# Altium schematic symbol library Microchip PIC12.SchLib: 457 symbols (part 3 of 15)
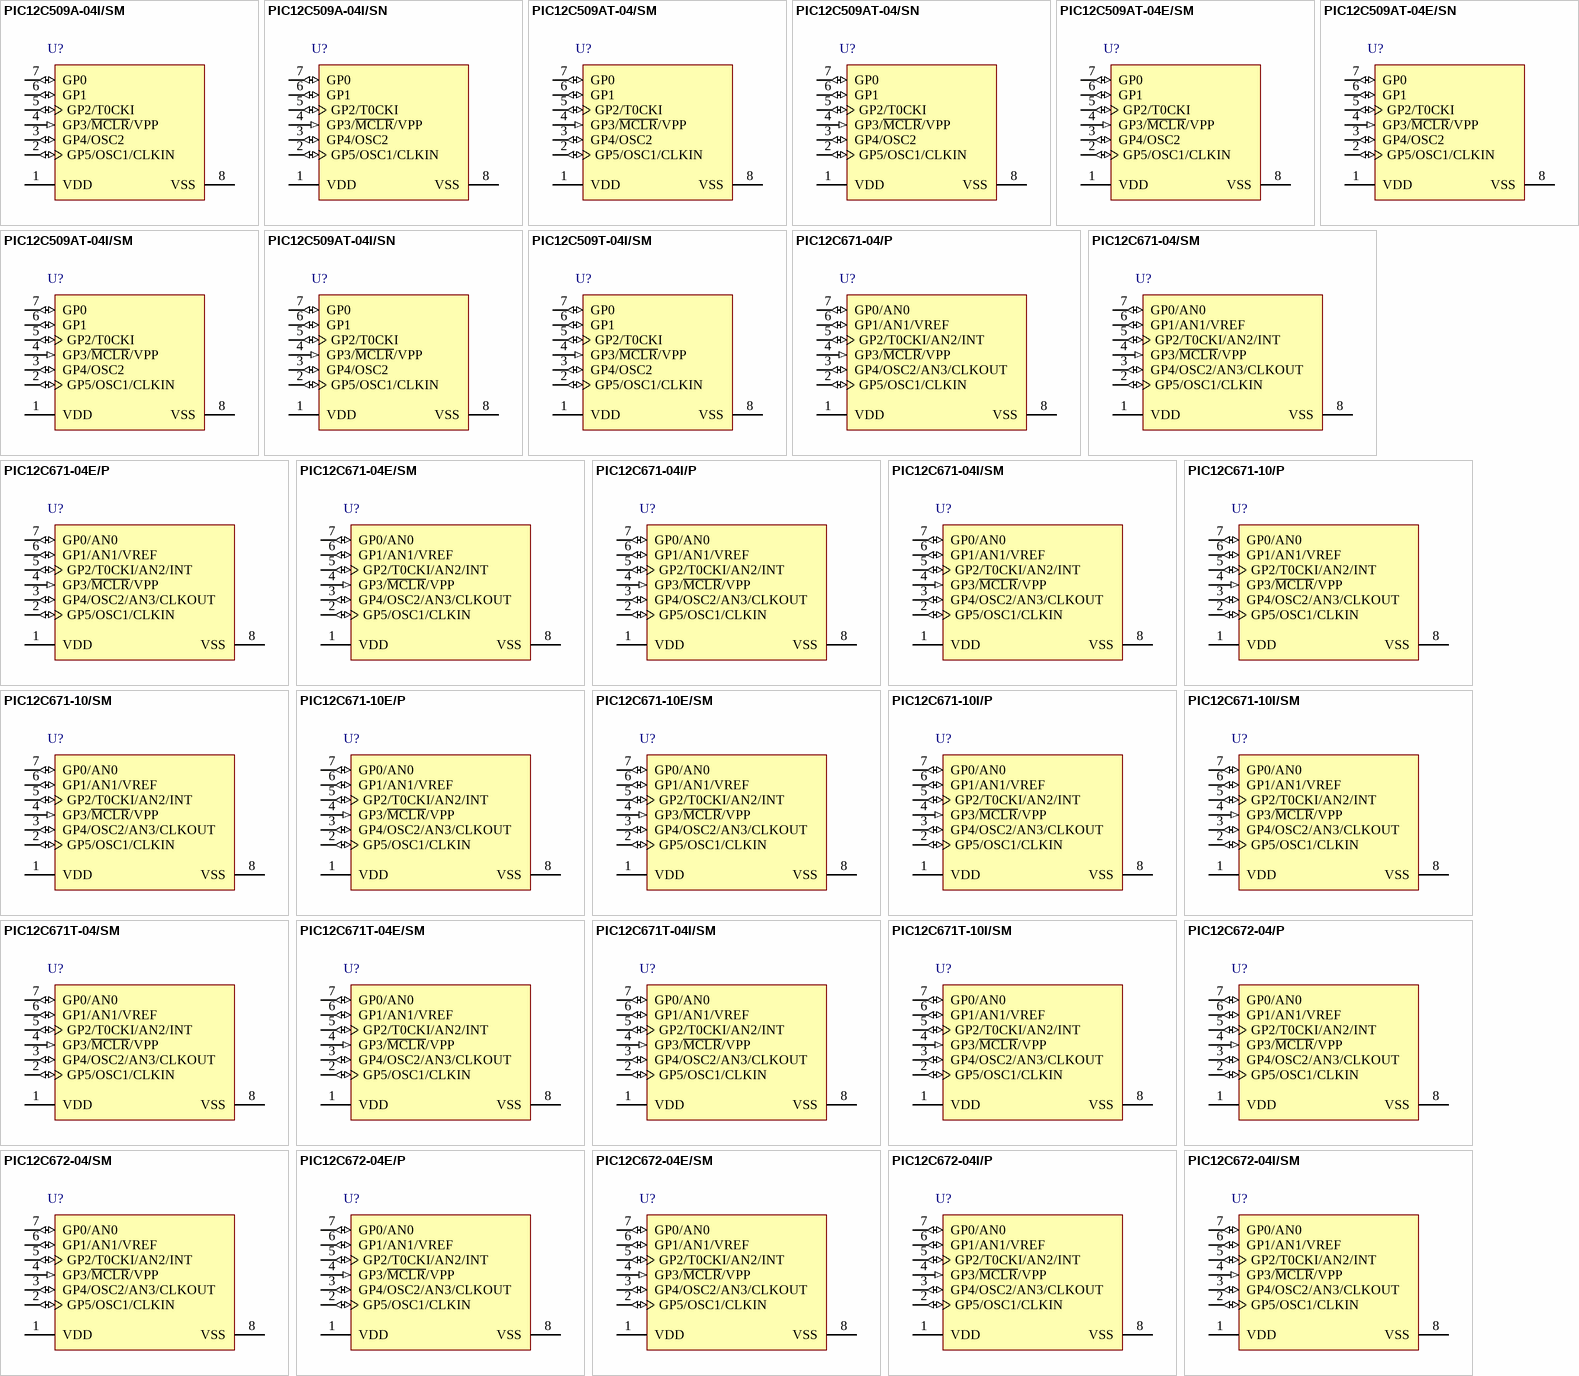
[diagram p17: symbols PIC12C509A-04I/SM to PIC12C672-04I/SM]

## PIC12C671-04/SM
designator U?
8-Bit CMOS Microcontroller with A/D Converter and EEPROM Data Memory, 4 MHz, 5 I/O, 0 to 70 degC, 8-pin SOIC (SM8), Tube; Manufacturer: Microchip; PartNumber: PIC12C671-04/SM; # of A/D Channels: 4; Digital Communication: 0 -UART, 0 -A/E/USART, 0 -SPI, 0 -I2C; I/O Pins: 5; Internal Oscillator: 4 MHz; Memory Type: OTP; Operation Voltage Range: 3V - 5.5V; Program Memory KBytes: 1.75; Program Memory KWords: 1; RAM: 128; Timers: 1 - 8-bit; DatasheetVersion: Rev. C; PackageVersion: C04-056C, 12/2012; PackageReference: SOIC-SM8; PackageDescription: 8-Lead Plastic Small Outline, 5.26 x 5.25 mm Body, 1.27 mm Pitch; Supplier 1: Digi-Key; Supplier Part Number 1: PIC12C671-04/SM-ND; Supplier 2: Farnell; Supplier Part Number 2: 1137292; Supplier 3: Newark; Supplier Part Number 3: 24M5843; Supplier 4: Newark; Supplier Part Number 4: 12C1855; Supplier 5: Mouser; Supplier Part Number 5: 579-PIC12C67104SM; Max. CPU Speed MHz: 4; Packing: TUBE; RoHS: TRUE; Mounting Technology: Surface Mount; ComponentLink1Description: Datasheet; ComponentLink1URL: http://ww1.microchip.com/downloads/en/DeviceDoc/30561C.pdf; ComponentLink2Description: Package Specification; ComponentLink2URL: http://www.microchip.com/stellent/groups/techpub_sg/documents/packagingspec/en012702.pdf; ComponentLink3Description: URL Link1; ComponentLink3URL: Product URL:http://www.microchip.com/datasheet/PIC12C671
footprint MCHP-SOIC-SM8_N (SOIC, 8-Leads, Body 5.26x5.25mm, Pitch 1.27mm, IPC Medium Density)
footprint MCHP-SOIC-SM8_L (SOIC, 8-Leads, Body 5.26x5.25mm, Pitch 1.27mm, IPC High Density)
footprint MCHP-SOIC-SM8_M (SOIC, 8-Leads, Body 5.26x5.25mm, Pitch 1.27mm, IPC Low Density)
pins: 1 VDD (power) "Positive supply for logic and I/O pins.", 2 GP5/OSC1/CLKIN (io), 3 GP4/OSC2/AN3/CLKOUT (io), 4 GP3/~{MCLR}/VPP (in), 5 GP2/T0CKI/AN2/INT (io), 6 GP1/AN1/VREF (io), 7 GP0/AN0 (io), 8 VSS (power) "Ground reference for logic and I/O pins."

## PIC12C671-04E/P
designator U?
8-Bit CMOS Microcontroller with A/D Converter and EEPROM Data Memory, 4 MHz, 5 I/O, -40 to 125 degC, 8-pin PDIP (P8), Tube; Manufacturer: Microchip; PartNumber: PIC12C671-04E/P; # of A/D Channels: 4; Digital Communication: 0 -UART, 0 -A/E/USART, 0 -SPI, 0 -I2C; I/O Pins: 5; Internal Oscillator: 4 MHz; Memory Type: OTP; Operation Voltage Range: 3V - 5.5V; Program Memory KBytes: 1.75; Program Memory KWords: 1; RAM: 128; Timers: 1 - 8-bit; DatasheetVersion: Rev. C; PackageVersion: C04-018B, 12/2012; PackageReference: PDIP-P8; PackageDescription: 8-Lead Plastic Dual In-Line, Row Spacing 7.62 mm, 9.5 x 6.6 mm Body, 2.54 mm Pitch; Supplier 1: Digi-Key; Supplier Part Number 1: PIC12C671-04E/P-ND; Supplier 2: Mouser; Supplier Part Number 2: 579-PIC12C671-04E/P; Max. CPU Speed MHz: 4; Packing: TUBE; RoHS: TRUE; Mounting Technology: Through Hole; ComponentLink1Description: Datasheet; ComponentLink1URL: http://ww1.microchip.com/downloads/en/DeviceDoc/30561C.pdf; ComponentLink2Description: Package Specification; ComponentLink2URL: http://www.microchip.com/stellent/groups/techpub_sg/documents/packagingspec/en012702.pdf; ComponentLink3Description: URL Link1; ComponentLink3URL: Product URL:http://www.microchip.com/datasheet/PIC12C671
footprint MCHP-PDIP-P8 (PDIP, 8-Leads, Body 9.5x6.604mm, Pitch 2.54mm)
pins: 1 VDD (power) "Positive supply for logic and I/O pins.", 2 GP5/OSC1/CLKIN (io), 3 GP4/OSC2/AN3/CLKOUT (io), 4 GP3/~{MCLR}/VPP (in), 5 GP2/T0CKI/AN2/INT (io), 6 GP1/AN1/VREF (io), 7 GP0/AN0 (io), 8 VSS (power) "Ground reference for logic and I/O pins."

## PIC12C671-04E/SM
designator U?
8-Bit CMOS Microcontroller with A/D Converter and EEPROM Data Memory, 4 MHz, 5 I/O, -40 to 125 degC, 8-pin SOIC (SM8), Tube; Manufacturer: Microchip; PartNumber: PIC12C671-04E/SM; # of A/D Channels: 4; Digital Communication: 0 -UART, 0 -A/E/USART, 0 -SPI, 0 -I2C; I/O Pins: 5; Internal Oscillator: 4 MHz; Memory Type: OTP; Operation Voltage Range: 3V - 5.5V; Program Memory KBytes: 1.75; Program Memory KWords: 1; RAM: 128; Timers: 1 - 8-bit; DatasheetVersion: Rev. C; PackageVersion: C04-056C, 12/2012; PackageReference: SOIC-SM8; PackageDescription: 8-Lead Plastic Small Outline, 5.26 x 5.25 mm Body, 1.27 mm Pitch; Supplier 1: Digi-Key; Supplier Part Number 1: PIC12C671-04E/SM-ND; Supplier 2: Newark; Supplier Part Number 2: 23C2971; Supplier 3: Mouser; Supplier Part Number 3: 579-PIC12C671-04E/SM; Max. CPU Speed MHz: 4; Packing: TUBE; RoHS: TRUE; Mounting Technology: Surface Mount; ComponentLink1Description: Datasheet; ComponentLink1URL: http://ww1.microchip.com/downloads/en/DeviceDoc/30561C.pdf; ComponentLink2Description: Package Specification; ComponentLink2URL: http://www.microchip.com/stellent/groups/techpub_sg/documents/packagingspec/en012702.pdf; ComponentLink3Description: URL Link1; ComponentLink3URL: Product URL:http://www.microchip.com/datasheet/PIC12C671
footprint MCHP-SOIC-SM8_N (SOIC, 8-Leads, Body 5.26x5.25mm, Pitch 1.27mm, IPC Medium Density)
footprint MCHP-SOIC-SM8_L (SOIC, 8-Leads, Body 5.26x5.25mm, Pitch 1.27mm, IPC High Density)
footprint MCHP-SOIC-SM8_M (SOIC, 8-Leads, Body 5.26x5.25mm, Pitch 1.27mm, IPC Low Density)
pins: 1 VDD (power) "Positive supply for logic and I/O pins.", 2 GP5/OSC1/CLKIN (io), 3 GP4/OSC2/AN3/CLKOUT (io), 4 GP3/~{MCLR}/VPP (in), 5 GP2/T0CKI/AN2/INT (io), 6 GP1/AN1/VREF (io), 7 GP0/AN0 (io), 8 VSS (power) "Ground reference for logic and I/O pins."

## PIC12C671-04I/P
designator U?
8-Bit CMOS Microcontroller with A/D Converter and EEPROM Data Memory, 4 MHz, 5 I/O, -40 to 85 degC, 8-pin PDIP (P8), Tube; Manufacturer: Microchip; PartNumber: PIC12C671-04I/P; # of A/D Channels: 4; Digital Communication: 0 -UART, 0 -A/E/USART, 0 -SPI, 0 -I2C; I/O Pins: 5; Internal Oscillator: 4 MHz; Memory Type: OTP; Operation Voltage Range: 3V - 5.5V; Program Memory KBytes: 1.75; Program Memory KWords: 1; RAM: 128; Timers: 1 - 8-bit; DatasheetVersion: Rev. C; PackageVersion: C04-018B, 12/2012; PackageReference: PDIP-P8; PackageDescription: 8-Lead Plastic Dual In-Line, Row Spacing 7.62 mm, 9.5 x 6.6 mm Body, 2.54 mm Pitch; Supplier 1: Digi-Key; Supplier Part Number 1: PIC12C671-04I/P-ND; Supplier 2: Farnell; Supplier Part Number 2: 9758879; Supplier 3: Newark; Supplier Part Number 3: 23C2972; Supplier 4: Mouser; Supplier Part Number 4: 579-PIC12C671-04I/P; Max. CPU Speed MHz: 4; Packing: TUBE; RoHS: TRUE; Mounting Technology: Through Hole; ComponentLink1Description: Datasheet; ComponentLink1URL: http://ww1.microchip.com/downloads/en/DeviceDoc/30561C.pdf; ComponentLink2Description: Package Specification; ComponentLink2URL: http://www.microchip.com/stellent/groups/techpub_sg/documents/packagingspec/en012702.pdf; ComponentLink3Description: URL Link1; ComponentLink3URL: Product URL:http://www.microchip.com/datasheet/PIC12C671
footprint MCHP-PDIP-P8 (PDIP, 8-Leads, Body 9.5x6.604mm, Pitch 2.54mm)
pins: 1 VDD (power) "Positive supply for logic and I/O pins.", 2 GP5/OSC1/CLKIN (io), 3 GP4/OSC2/AN3/CLKOUT (io), 4 GP3/~{MCLR}/VPP (in), 5 GP2/T0CKI/AN2/INT (io), 6 GP1/AN1/VREF (io), 7 GP0/AN0 (io), 8 VSS (power) "Ground reference for logic and I/O pins."

## PIC12C671-04I/SM
designator U?
8-Bit CMOS Microcontroller with A/D Converter and EEPROM Data Memory, 4 MHz, 5 I/O, -40 to 85 degC, 8-pin SOIC (SM8), Tube; Manufacturer: Microchip; PartNumber: PIC12C671-04I/SM; # of A/D Channels: 4; Digital Communication: 0 -UART, 0 -A/E/USART, 0 -SPI, 0 -I2C; I/O Pins: 5; Internal Oscillator: 4 MHz; Memory Type: OTP; Operation Voltage Range: 3V - 5.5V; Program Memory KBytes: 1.75; Program Memory KWords: 1; RAM: 128; Timers: 1 - 8-bit; DatasheetVersion: Rev. C; PackageVersion: C04-056C, 12/2012; PackageReference: SOIC-SM8; PackageDescription: 8-Lead Plastic Small Outline, 5.26 x 5.25 mm Body, 1.27 mm Pitch; Supplier 1: Digi-Key; Supplier Part Number 1: PIC12C671-04I/SM-ND; Supplier 2: Farnell; Supplier Part Number 2: 1084222; Supplier 3: Newark; Supplier Part Number 3: 24M5844; Supplier 4: Newark; Supplier Part Number 4: 23C2973; Supplier 5: Mouser; Supplier Part Number 5: 579-PIC12C671-04I/SM; Max. CPU Speed MHz: 4; Packing: TUBE; RoHS: TRUE; Mounting Technology: Surface Mount; ComponentLink1Description: Datasheet; ComponentLink1URL: http://ww1.microchip.com/downloads/en/DeviceDoc/30561C.pdf; ComponentLink2Description: Package Specification; ComponentLink2URL: http://www.microchip.com/stellent/groups/techpub_sg/documents/packagingspec/en012702.pdf; ComponentLink3Description: URL Link1; ComponentLink3URL: Product URL:http://www.microchip.com/datasheet/PIC12C671
footprint MCHP-SOIC-SM8_N (SOIC, 8-Leads, Body 5.26x5.25mm, Pitch 1.27mm, IPC Medium Density)
footprint MCHP-SOIC-SM8_L (SOIC, 8-Leads, Body 5.26x5.25mm, Pitch 1.27mm, IPC High Density)
footprint MCHP-SOIC-SM8_M (SOIC, 8-Leads, Body 5.26x5.25mm, Pitch 1.27mm, IPC Low Density)
pins: 1 VDD (power) "Positive supply for logic and I/O pins.", 2 GP5/OSC1/CLKIN (io), 3 GP4/OSC2/AN3/CLKOUT (io), 4 GP3/~{MCLR}/VPP (in), 5 GP2/T0CKI/AN2/INT (io), 6 GP1/AN1/VREF (io), 7 GP0/AN0 (io), 8 VSS (power) "Ground reference for logic and I/O pins."

## PIC12C671-10/P
designator U?
8-Bit CMOS Microcontroller with A/D Converter and EEPROM Data Memory, 10 MHz, 5 I/O, 0 to 70 degC, 8-pin PDIP (P8), Tube; Manufacturer: Microchip; PartNumber: PIC12C671-10/P; # of A/D Channels: 4; Digital Communication: 0 -UART, 0 -A/E/USART, 0 -SPI, 0 -I2C; I/O Pins: 5; Internal Oscillator: 4 MHz; Max. CPU Speed MHz: 10; Memory Type: OTP; Operation Voltage Range: 3V - 5.5V; Program Memory KBytes: 1.75; Program Memory KWords: 1; RAM: 128; Timers: 1 - 8-bit; DatasheetVersion: Rev. C; PackageVersion: C04-018B, 12/2012; PackageReference: PDIP-P8; PackageDescription: 8-Lead Plastic Dual In-Line, Row Spacing 7.62 mm, 9.5 x 6.6 mm Body, 2.54 mm Pitch; Supplier 1: Digi-Key; Supplier Part Number 1: PIC12C671-10/P-ND; Supplier 2: Farnell; Supplier Part Number 2: 1212665; Supplier 3: Newark; Supplier Part Number 3: 23C2974; Supplier 4: Mouser; Supplier Part Number 4: 579-PIC12C671-10/P; Packing: TUBE; RoHS: TRUE; Mounting Technology: Through Hole; ComponentLink1Description: Datasheet; ComponentLink1URL: http://ww1.microchip.com/downloads/en/DeviceDoc/30561C.pdf; ComponentLink2Description: Package Specification; ComponentLink2URL: http://www.microchip.com/stellent/groups/techpub_sg/documents/packagingspec/en012702.pdf; ComponentLink3Description: URL Link1; ComponentLink3URL: Product URL:http://www.microchip.com/datasheet/PIC12C671
footprint MCHP-PDIP-P8 (PDIP, 8-Leads, Body 9.5x6.604mm, Pitch 2.54mm)
pins: 1 VDD (power) "Positive supply for logic and I/O pins.", 2 GP5/OSC1/CLKIN (io), 3 GP4/OSC2/AN3/CLKOUT (io), 4 GP3/~{MCLR}/VPP (in), 5 GP2/T0CKI/AN2/INT (io), 6 GP1/AN1/VREF (io), 7 GP0/AN0 (io), 8 VSS (power) "Ground reference for logic and I/O pins."

## PIC12C671-10/SM
designator U?
8-Bit CMOS Microcontroller with A/D Converter and EEPROM Data Memory, 10 MHz, 5 I/O, 0 to 70 degC, 8-pin SOIC (SM8), Tube; Manufacturer: Microchip; PartNumber: PIC12C671-10/SM; # of A/D Channels: 4; Digital Communication: 0 -UART, 0 -A/E/USART, 0 -SPI, 0 -I2C; I/O Pins: 5; Internal Oscillator: 4 MHz; Max. CPU Speed MHz: 10; Memory Type: OTP; Operation Voltage Range: 3V - 5.5V; Program Memory KBytes: 1.75; Program Memory KWords: 1; RAM: 128; Timers: 1 - 8-bit; DatasheetVersion: Rev. C; PackageVersion: C04-056C, 12/2012; PackageReference: SOIC-SM8; PackageDescription: 8-Lead Plastic Small Outline, 5.26 x 5.25 mm Body, 1.27 mm Pitch; Supplier 1: Digi-Key; Supplier Part Number 1: PIC12C671-10/SM-ND; Supplier 2: Mouser; Supplier Part Number 2: 579-PIC12C671-10/SM; Packing: TUBE; RoHS: TRUE; Mounting Technology: Surface Mount; ComponentLink1Description: Datasheet; ComponentLink1URL: http://ww1.microchip.com/downloads/en/DeviceDoc/30561C.pdf; ComponentLink2Description: Package Specification; ComponentLink2URL: http://www.microchip.com/stellent/groups/techpub_sg/documents/packagingspec/en012702.pdf; ComponentLink3Description: URL Link1; ComponentLink3URL: Product URL:http://www.microchip.com/datasheet/PIC12C671
footprint MCHP-SOIC-SM8_N (SOIC, 8-Leads, Body 5.26x5.25mm, Pitch 1.27mm, IPC Medium Density)
footprint MCHP-SOIC-SM8_L (SOIC, 8-Leads, Body 5.26x5.25mm, Pitch 1.27mm, IPC High Density)
footprint MCHP-SOIC-SM8_M (SOIC, 8-Leads, Body 5.26x5.25mm, Pitch 1.27mm, IPC Low Density)
pins: 1 VDD (power) "Positive supply for logic and I/O pins.", 2 GP5/OSC1/CLKIN (io), 3 GP4/OSC2/AN3/CLKOUT (io), 4 GP3/~{MCLR}/VPP (in), 5 GP2/T0CKI/AN2/INT (io), 6 GP1/AN1/VREF (io), 7 GP0/AN0 (io), 8 VSS (power) "Ground reference for logic and I/O pins."

## PIC12C671-10E/P
designator U?
8-Bit CMOS Microcontroller with A/D Converter and EEPROM Data Memory, 10 MHz, 5 I/O, -40 to 125 degC, 8-pin PDIP (P8), Tube; Manufacturer: Microchip; PartNumber: PIC12C671-10E/P; # of A/D Channels: 4; Digital Communication: 0 -UART, 0 -A/E/USART, 0 -SPI, 0 -I2C; I/O Pins: 5; Internal Oscillator: 4 MHz; Max. CPU Speed MHz: 10; Memory Type: OTP; Operation Voltage Range: 3V - 5.5V; Program Memory KBytes: 1.75; Program Memory KWords: 1; RAM: 128; Timers: 1 - 8-bit; DatasheetVersion: Rev. C; PackageVersion: C04-018B, 12/2012; PackageReference: PDIP-P8; PackageDescription: 8-Lead Plastic Dual In-Line, Row Spacing 7.62 mm, 9.5 x 6.6 mm Body, 2.54 mm Pitch; Supplier 1: Digi-Key; Supplier Part Number 1: PIC12C671-10E/P-ND; Supplier 2: Mouser; Supplier Part Number 2: 579-PIC12C671-10E/P; Packing: TUBE; RoHS: TRUE; Mounting Technology: Through Hole; ComponentLink1Description: Datasheet; ComponentLink1URL: http://ww1.microchip.com/downloads/en/DeviceDoc/30561C.pdf; ComponentLink2Description: Package Specification; ComponentLink2URL: http://www.microchip.com/stellent/groups/techpub_sg/documents/packagingspec/en012702.pdf; ComponentLink3Description: URL Link1; ComponentLink3URL: Product URL:http://www.microchip.com/datasheet/PIC12C671
footprint MCHP-PDIP-P8 (PDIP, 8-Leads, Body 9.5x6.604mm, Pitch 2.54mm)
pins: 1 VDD (power) "Positive supply for logic and I/O pins.", 2 GP5/OSC1/CLKIN (io), 3 GP4/OSC2/AN3/CLKOUT (io), 4 GP3/~{MCLR}/VPP (in), 5 GP2/T0CKI/AN2/INT (io), 6 GP1/AN1/VREF (io), 7 GP0/AN0 (io), 8 VSS (power) "Ground reference for logic and I/O pins."

## PIC12C671-10E/SM
designator U?
8-Bit CMOS Microcontroller with A/D Converter and EEPROM Data Memory, 10 MHz, 5 I/O, -40 to 125 degC, 8-pin SOIC (SM8), Tube; Manufacturer: Microchip; PartNumber: PIC12C671-10E/SM; # of A/D Channels: 4; Digital Communication: 0 -UART, 0 -A/E/USART, 0 -SPI, 0 -I2C; I/O Pins: 5; Internal Oscillator: 4 MHz; Max. CPU Speed MHz: 10; Memory Type: OTP; Operation Voltage Range: 3V - 5.5V; Program Memory KBytes: 1.75; Program Memory KWords: 1; RAM: 128; Timers: 1 - 8-bit; DatasheetVersion: Rev. C; PackageVersion: C04-056C, 12/2012; PackageReference: SOIC-SM8; PackageDescription: 8-Lead Plastic Small Outline, 5.26 x 5.25 mm Body, 1.27 mm Pitch; Supplier 1: Digi-Key; Supplier Part Number 1: PIC12C671-10E/SM-ND; Supplier 2: Mouser; Supplier Part Number 2: 579-PIC12C671-10E/SM; Packing: TUBE; RoHS: TRUE; Mounting Technology: Surface Mount; ComponentLink1Description: Datasheet; ComponentLink1URL: http://ww1.microchip.com/downloads/en/DeviceDoc/30561C.pdf; ComponentLink2Description: Package Specification; ComponentLink2URL: http://www.microchip.com/stellent/groups/techpub_sg/documents/packagingspec/en012702.pdf; ComponentLink3Description: URL Link1; ComponentLink3URL: Product URL:http://www.microchip.com/datasheet/PIC12C671
footprint MCHP-SOIC-SM8_N (SOIC, 8-Leads, Body 5.26x5.25mm, Pitch 1.27mm, IPC Medium Density)
footprint MCHP-SOIC-SM8_L (SOIC, 8-Leads, Body 5.26x5.25mm, Pitch 1.27mm, IPC High Density)
footprint MCHP-SOIC-SM8_M (SOIC, 8-Leads, Body 5.26x5.25mm, Pitch 1.27mm, IPC Low Density)
pins: 1 VDD (power) "Positive supply for logic and I/O pins.", 2 GP5/OSC1/CLKIN (io), 3 GP4/OSC2/AN3/CLKOUT (io), 4 GP3/~{MCLR}/VPP (in), 5 GP2/T0CKI/AN2/INT (io), 6 GP1/AN1/VREF (io), 7 GP0/AN0 (io), 8 VSS (power) "Ground reference for logic and I/O pins."

## PIC12C671-10I/P
designator U?
8-Bit CMOS Microcontroller with A/D Converter and EEPROM Data Memory, 10 MHz, 5 I/O, -40 to 85 degC, 8-pin PDIP (P8), Tube; Manufacturer: Microchip; PartNumber: PIC12C671-10I/P; # of A/D Channels: 4; Digital Communication: 0 -UART, 0 -A/E/USART, 0 -SPI, 0 -I2C; I/O Pins: 5; Internal Oscillator: 4 MHz; Max. CPU Speed MHz: 10; Memory Type: OTP; Operation Voltage Range: 3V - 5.5V; Program Memory KBytes: 1.75; Program Memory KWords: 1; RAM: 128; Timers: 1 - 8-bit; DatasheetVersion: Rev. C; PackageVersion: C04-018B, 12/2012; PackageReference: PDIP-P8; PackageDescription: 8-Lead Plastic Dual In-Line, Row Spacing 7.62 mm, 9.5 x 6.6 mm Body, 2.54 mm Pitch; Supplier 1: Digi-Key; Supplier Part Number 1: PIC12C671-10I/P-ND; Supplier 2: Farnell; Supplier Part Number 2: 1084238; Supplier 3: Newark; Supplier Part Number 3: 73K1285; Supplier 4: Mouser; Supplier Part Number 4: 579-PIC12C671-10I/P; Packing: TUBE; RoHS: TRUE; Mounting Technology: Through Hole; ComponentLink1Description: Datasheet; ComponentLink1URL: http://ww1.microchip.com/downloads/en/DeviceDoc/30561C.pdf; ComponentLink2Description: Package Specification; ComponentLink2URL: http://www.microchip.com/stellent/groups/techpub_sg/documents/packagingspec/en012702.pdf; ComponentLink3Description: URL Link1; ComponentLink3URL: Product URL:http://www.microchip.com/datasheet/PIC12C671
footprint MCHP-PDIP-P8 (PDIP, 8-Leads, Body 9.5x6.604mm, Pitch 2.54mm)
pins: 1 VDD (power) "Positive supply for logic and I/O pins.", 2 GP5/OSC1/CLKIN (io), 3 GP4/OSC2/AN3/CLKOUT (io), 4 GP3/~{MCLR}/VPP (in), 5 GP2/T0CKI/AN2/INT (io), 6 GP1/AN1/VREF (io), 7 GP0/AN0 (io), 8 VSS (power) "Ground reference for logic and I/O pins."

## PIC12C671-10I/SM
designator U?
8-Bit CMOS Microcontroller with A/D Converter and EEPROM Data Memory, 10 MHz, 5 I/O, -40 to 85 degC, 8-pin SOIC (SM8), Tube; Manufacturer: Microchip; PartNumber: PIC12C671-10I/SM; # of A/D Channels: 4; Digital Communication: 0 -UART, 0 -A/E/USART, 0 -SPI, 0 -I2C; I/O Pins: 5; Internal Oscillator: 4 MHz; Max. CPU Speed MHz: 10; Memory Type: OTP; Operation Voltage Range: 3V - 5.5V; Program Memory KBytes: 1.75; Program Memory KWords: 1; RAM: 128; Timers: 1 - 8-bit; DatasheetVersion: Rev. C; PackageVersion: C04-056C, 12/2012; PackageReference: SOIC-SM8; PackageDescription: 8-Lead Plastic Small Outline, 5.26 x 5.25 mm Body, 1.27 mm Pitch; Supplier 1: Digi-Key; Supplier Part Number 1: PIC12C671-10I/SM-ND; Supplier 2: Farnell; Supplier Part Number 2: 1196776; Supplier 3: Newark; Supplier Part Number 3: 23C2979; Supplier 4: Mouser; Supplier Part Number 4: 579-PIC12C671-10I/SM; Packing: TUBE; RoHS: TRUE; Mounting Technology: Surface Mount; ComponentLink1Description: Datasheet; ComponentLink1URL: http://ww1.microchip.com/downloads/en/DeviceDoc/30561C.pdf; ComponentLink2Description: Package Specification; ComponentLink2URL: http://www.microchip.com/stellent/groups/techpub_sg/documents/packagingspec/en012702.pdf; ComponentLink3Description: URL Link1; ComponentLink3URL: Product URL:http://www.microchip.com/datasheet/PIC12C671
footprint MCHP-SOIC-SM8_N (SOIC, 8-Leads, Body 5.26x5.25mm, Pitch 1.27mm, IPC Medium Density)
footprint MCHP-SOIC-SM8_L (SOIC, 8-Leads, Body 5.26x5.25mm, Pitch 1.27mm, IPC High Density)
footprint MCHP-SOIC-SM8_M (SOIC, 8-Leads, Body 5.26x5.25mm, Pitch 1.27mm, IPC Low Density)
pins: 1 VDD (power) "Positive supply for logic and I/O pins.", 2 GP5/OSC1/CLKIN (io), 3 GP4/OSC2/AN3/CLKOUT (io), 4 GP3/~{MCLR}/VPP (in), 5 GP2/T0CKI/AN2/INT (io), 6 GP1/AN1/VREF (io), 7 GP0/AN0 (io), 8 VSS (power) "Ground reference for logic and I/O pins."

## PIC12C671T-04/SM
designator U?
8-Bit CMOS Microcontroller with A/D Converter and EEPROM Data Memory, 4 MHz, 5 I/O, 0 to 70 degC, 8-pin SOIC (SM8), Tape and Reel; Manufacturer: Microchip; PartNumber: PIC12C671T-04/SM; # of A/D Channels: 4; Digital Communication: 0 -UART, 0 -A/E/USART, 0 -SPI, 0 -I2C; I/O Pins: 5; Internal Oscillator: 4 MHz; Memory Type: OTP; Operation Voltage Range: 3V - 5.5V; Packing: T/R; Program Memory KBytes: 1.75; Program Memory KWords: 1; RAM: 128; Timers: 1 - 8-bit; DatasheetVersion: Rev. C; PackageVersion: C04-056C, 12/2012; PackageReference: SOIC-SM8; PackageDescription: 8-Lead Plastic Small Outline, 5.26 x 5.25 mm Body, 1.27 mm Pitch; Supplier 1: Digi-Key; Supplier Part Number 1: PIC12C671T-04/SM-ND; Supplier 2: Mouser; Supplier Part Number 2: 579-PIC12C671T-04/SM; Max. CPU Speed MHz: 4; RoHS: TRUE; Mounting Technology: Surface Mount; ComponentLink1Description: Datasheet; ComponentLink1URL: http://ww1.microchip.com/downloads/en/DeviceDoc/30561C.pdf; ComponentLink2Description: Package Specification; ComponentLink2URL: http://www.microchip.com/stellent/groups/techpub_sg/documents/packagingspec/en012702.pdf; ComponentLink3Description: URL Link1; ComponentLink3URL: Product URL:http://www.microchip.com/datasheet/PIC12C671
footprint MCHP-SOIC-SM8_N (SOIC, 8-Leads, Body 5.26x5.25mm, Pitch 1.27mm, IPC Medium Density)
footprint MCHP-SOIC-SM8_L (SOIC, 8-Leads, Body 5.26x5.25mm, Pitch 1.27mm, IPC High Density)
footprint MCHP-SOIC-SM8_M (SOIC, 8-Leads, Body 5.26x5.25mm, Pitch 1.27mm, IPC Low Density)
pins: 1 VDD (power) "Positive supply for logic and I/O pins.", 2 GP5/OSC1/CLKIN (io), 3 GP4/OSC2/AN3/CLKOUT (io), 4 GP3/~{MCLR}/VPP (in), 5 GP2/T0CKI/AN2/INT (io), 6 GP1/AN1/VREF (io), 7 GP0/AN0 (io), 8 VSS (power) "Ground reference for logic and I/O pins."

## PIC12C671T-04E/SM
designator U?
8-Bit CMOS Microcontroller with A/D Converter and EEPROM Data Memory, 4 MHz, 5 I/O, -40 to 125 degC, 8-pin SOIC (SM8), Tape and Reel; Manufacturer: Microchip; PartNumber: PIC12C671T-04E/SM; # of A/D Channels: 4; Digital Communication: 0 -UART, 0 -A/E/USART, 0 -SPI, 0 -I2C; I/O Pins: 5; Internal Oscillator: 4 MHz; Memory Type: OTP; Operation Voltage Range: 3V - 5.5V; Packing: T/R; Program Memory KBytes: 1.75; Program Memory KWords: 1; RAM: 128; Timers: 1 - 8-bit; DatasheetVersion: Rev. C; PackageVersion: C04-056C, 12/2012; PackageReference: SOIC-SM8; PackageDescription: 8-Lead Plastic Small Outline, 5.26 x 5.25 mm Body, 1.27 mm Pitch; Supplier 1: Digi-Key; Supplier Part Number 1: PIC12C671T-04E/SM-ND; Supplier 2: Mouser; Supplier Part Number 2: 579-12C671T-04E/SM; Max. CPU Speed MHz: 4; RoHS: TRUE; Mounting Technology: Surface Mount; ComponentLink1Description: Datasheet; ComponentLink1URL: http://ww1.microchip.com/downloads/en/DeviceDoc/30561C.pdf; ComponentLink2Description: Package Specification; ComponentLink2URL: http://www.microchip.com/stellent/groups/techpub_sg/documents/packagingspec/en012702.pdf; ComponentLink3Description: URL Link1; ComponentLink3URL: Product URL:http://www.microchip.com/datasheet/PIC12C671
footprint MCHP-SOIC-SM8_N (SOIC, 8-Leads, Body 5.26x5.25mm, Pitch 1.27mm, IPC Medium Density)
footprint MCHP-SOIC-SM8_L (SOIC, 8-Leads, Body 5.26x5.25mm, Pitch 1.27mm, IPC High Density)
footprint MCHP-SOIC-SM8_M (SOIC, 8-Leads, Body 5.26x5.25mm, Pitch 1.27mm, IPC Low Density)
pins: 1 VDD (power) "Positive supply for logic and I/O pins.", 2 GP5/OSC1/CLKIN (io), 3 GP4/OSC2/AN3/CLKOUT (io), 4 GP3/~{MCLR}/VPP (in), 5 GP2/T0CKI/AN2/INT (io), 6 GP1/AN1/VREF (io), 7 GP0/AN0 (io), 8 VSS (power) "Ground reference for logic and I/O pins."

## PIC12C671T-04I/SM
designator U?
8-Bit CMOS Microcontroller with A/D Converter and EEPROM Data Memory, 4 MHz, 5 I/O, -40 to 85 degC, 8-pin SOIC (SM8), Tape and Reel; Manufacturer: Microchip; PartNumber: PIC12C671T-04I/SM; # of A/D Channels: 4; Digital Communication: 0 -UART, 0 -A/E/USART, 0 -SPI, 0 -I2C; I/O Pins: 5; Internal Oscillator: 4 MHz; Memory Type: OTP; Operation Voltage Range: 3V - 5.5V; Packing: T/R; Program Memory KBytes: 1.75; Program Memory KWords: 1; RAM: 128; Timers: 1 - 8-bit; DatasheetVersion: Rev. C; PackageVersion: C04-056C, 12/2012; PackageReference: SOIC-SM8; PackageDescription: 8-Lead Plastic Small Outline, 5.26 x 5.25 mm Body, 1.27 mm Pitch; Supplier 1: Digi-Key; Supplier Part Number 1: PIC12C671T-04I/SM-ND; Supplier 2: Mouser; Supplier Part Number 2: 579-12C671T-04I/SM; Max. CPU Speed MHz: 4; RoHS: TRUE; Mounting Technology: Surface Mount; ComponentLink1Description: Datasheet; ComponentLink1URL: http://ww1.microchip.com/downloads/en/DeviceDoc/30561C.pdf; ComponentLink2Description: Package Specification; ComponentLink2URL: http://www.microchip.com/stellent/groups/techpub_sg/documents/packagingspec/en012702.pdf; ComponentLink3Description: URL Link1; ComponentLink3URL: Product URL:http://www.microchip.com/datasheet/PIC12C671
footprint MCHP-SOIC-SM8_N (SOIC, 8-Leads, Body 5.26x5.25mm, Pitch 1.27mm, IPC Medium Density)
footprint MCHP-SOIC-SM8_L (SOIC, 8-Leads, Body 5.26x5.25mm, Pitch 1.27mm, IPC High Density)
footprint MCHP-SOIC-SM8_M (SOIC, 8-Leads, Body 5.26x5.25mm, Pitch 1.27mm, IPC Low Density)
pins: 1 VDD (power) "Positive supply for logic and I/O pins.", 2 GP5/OSC1/CLKIN (io), 3 GP4/OSC2/AN3/CLKOUT (io), 4 GP3/~{MCLR}/VPP (in), 5 GP2/T0CKI/AN2/INT (io), 6 GP1/AN1/VREF (io), 7 GP0/AN0 (io), 8 VSS (power) "Ground reference for logic and I/O pins."

## PIC12C671T-10I/SM
designator U?
8-Bit CMOS Microcontroller with A/D Converter and EEPROM Data Memory, 10 MHz, 5 I/O, -40 to 85 degC, 8-pin SOIC (SM8), Tape and Reel; Manufacturer: Microchip; PartNumber: PIC12C671T-10I/SM; # of A/D Channels: 4; Digital Communication: 0 -UART, 0 -A/E/USART, 0 -SPI, 0 -I2C; I/O Pins: 5; Internal Oscillator: 4 MHz; Max. CPU Speed MHz: 10; Memory Type: OTP; Operation Voltage Range: 3V - 5.5V; Packing: T/R; Program Memory KBytes: 1.75; Program Memory KWords: 1; RAM: 128; Timers: 1 - 8-bit; DatasheetVersion: Rev. C; PackageVersion: C04-056C, 12/2012; PackageReference: SOIC-SM8; PackageDescription: 8-Lead Plastic Small Outline, 5.26 x 5.25 mm Body, 1.27 mm Pitch; Supplier 1: Digi-Key; Supplier Part Number 1: PIC12C671T-10I/SM-ND; Supplier 2: Mouser; Supplier Part Number 2: 579-12C671T-10I/SM; RoHS: TRUE; Mounting Technology: Surface Mount; ComponentLink1Description: Datasheet; ComponentLink1URL: http://ww1.microchip.com/downloads/en/DeviceDoc/30561C.pdf; ComponentLink2Description: Package Specification; ComponentLink2URL: http://www.microchip.com/stellent/groups/techpub_sg/documents/packagingspec/en012702.pdf; ComponentLink3Description: URL Link1; ComponentLink3URL: Product URL:http://www.microchip.com/datasheet/PIC12C671
footprint MCHP-SOIC-SM8_N (SOIC, 8-Leads, Body 5.26x5.25mm, Pitch 1.27mm, IPC Medium Density)
footprint MCHP-SOIC-SM8_L (SOIC, 8-Leads, Body 5.26x5.25mm, Pitch 1.27mm, IPC High Density)
footprint MCHP-SOIC-SM8_M (SOIC, 8-Leads, Body 5.26x5.25mm, Pitch 1.27mm, IPC Low Density)
pins: 1 VDD (power) "Positive supply for logic and I/O pins.", 2 GP5/OSC1/CLKIN (io), 3 GP4/OSC2/AN3/CLKOUT (io), 4 GP3/~{MCLR}/VPP (in), 5 GP2/T0CKI/AN2/INT (io), 6 GP1/AN1/VREF (io), 7 GP0/AN0 (io), 8 VSS (power) "Ground reference for logic and I/O pins."

## PIC12C672-04/P
designator U?
8-Bit CMOS Microcontroller with A/D Converter and EEPROM Data Memory, 4 MHz, 5 I/O, 0 to 70 degC, 8-pin PDIP (P8), Tube; Manufacturer: Microchip; PartNumber: PIC12C672-04/P; # of A/D Channels: 4; Digital Communication: 0 -UART, 0 -A/E/USART, 0 -SPI, 0 -I2C; I/O Pins: 5; Internal Oscillator: 4 MHz; Memory Type: OTP; Operation Voltage Range: 3V - 5.5V; Program Memory KBytes: 3.5; Program Memory KWords: 2; RAM: 128; Timers: 1 - 8-bit; DatasheetVersion: Rev. C; PackageVersion: C04-018B, 12/2012; PackageReference: PDIP-P8; PackageDescription: 8-Lead Plastic Dual In-Line, Row Spacing 7.62 mm, 9.5 x 6.6 mm Body, 2.54 mm Pitch; Supplier 1: Digi-Key; Supplier Part Number 1: PIC12C672-04/P-ND; Supplier 2: Farnell; Supplier Part Number 2: 9758887; Supplier 3: Newark; Supplier Part Number 3: 59K0241; Supplier 4: Mouser; Supplier Part Number 4: 579-PIC12C672-04/P; Max. CPU Speed MHz: 4; Packing: TUBE; RoHS: TRUE; Mounting Technology: Through Hole; ComponentLink1Description: Datasheet; ComponentLink1URL: http://ww1.microchip.com/downloads/en/DeviceDoc/30561C.pdf; ComponentLink2Description: Package Specification; ComponentLink2URL: http://www.microchip.com/stellent/groups/techpub_sg/documents/packagingspec/en012702.pdf; ComponentLink3Description: URL Link1; ComponentLink3URL: Product URL:http://www.microchip.com/datasheet/PIC12C672
footprint MCHP-PDIP-P8 (PDIP, 8-Leads, Body 9.5x6.604mm, Pitch 2.54mm)
pins: 1 VDD (power) "Positive supply for logic and I/O pins.", 2 GP5/OSC1/CLKIN (io), 3 GP4/OSC2/AN3/CLKOUT (io), 4 GP3/~{MCLR}/VPP (in), 5 GP2/T0CKI/AN2/INT (io), 6 GP1/AN1/VREF (io), 7 GP0/AN0 (io), 8 VSS (power) "Ground reference for logic and I/O pins."

## PIC12C672-04/SM
designator U?
8-Bit CMOS Microcontroller with A/D Converter and EEPROM Data Memory, 4 MHz, 5 I/O, 0 to 70 degC, 8-pin SOIC (SM8), Tube; Manufacturer: Microchip; PartNumber: PIC12C672-04/SM; # of A/D Channels: 4; Digital Communication: 0 -UART, 0 -A/E/USART, 0 -SPI, 0 -I2C; I/O Pins: 5; Internal Oscillator: 4 MHz; Memory Type: OTP; Operation Voltage Range: 3V - 5.5V; Program Memory KBytes: 3.5; Program Memory KWords: 2; RAM: 128; Timers: 1 - 8-bit; DatasheetVersion: Rev. C; PackageVersion: C04-056C, 12/2012; PackageReference: SOIC-SM8; PackageDescription: 8-Lead Plastic Small Outline, 5.26 x 5.25 mm Body, 1.27 mm Pitch; Supplier 1: Digi-Key; Supplier Part Number 1: PIC12C672-04/SM-ND; Supplier 2: Farnell; Supplier Part Number 2: 1137297; Supplier 3: Newark; Supplier Part Number 3: 72K7294; Supplier 4: Mouser; Supplier Part Number 4: 579-PIC12C672-04/SM; Max. CPU Speed MHz: 4; Packing: TUBE; RoHS: TRUE; Mounting Technology: Surface Mount; ComponentLink1Description: Datasheet; ComponentLink1URL: http://ww1.microchip.com/downloads/en/DeviceDoc/30561C.pdf; ComponentLink2Description: Package Specification; ComponentLink2URL: http://www.microchip.com/stellent/groups/techpub_sg/documents/packagingspec/en012702.pdf; ComponentLink3Description: URL Link1; ComponentLink3URL: Product URL:http://www.microchip.com/datasheet/PIC12C672
footprint MCHP-SOIC-SM8_N (SOIC, 8-Leads, Body 5.26x5.25mm, Pitch 1.27mm, IPC Medium Density)
footprint MCHP-SOIC-SM8_L (SOIC, 8-Leads, Body 5.26x5.25mm, Pitch 1.27mm, IPC High Density)
footprint MCHP-SOIC-SM8_M (SOIC, 8-Leads, Body 5.26x5.25mm, Pitch 1.27mm, IPC Low Density)
pins: 1 VDD (power) "Positive supply for logic and I/O pins.", 2 GP5/OSC1/CLKIN (io), 3 GP4/OSC2/AN3/CLKOUT (io), 4 GP3/~{MCLR}/VPP (in), 5 GP2/T0CKI/AN2/INT (io), 6 GP1/AN1/VREF (io), 7 GP0/AN0 (io), 8 VSS (power) "Ground reference for logic and I/O pins."

## PIC12C672-04E/P
designator U?
8-Bit CMOS Microcontroller with A/D Converter and EEPROM Data Memory, 4 MHz, 5 I/O, -40 to 125 degC, 8-pin PDIP (P8), Tube; Manufacturer: Microchip; PartNumber: PIC12C672-04E/P; # of A/D Channels: 4; Digital Communication: 0 -UART, 0 -A/E/USART, 0 -SPI, 0 -I2C; I/O Pins: 5; Internal Oscillator: 4 MHz; Memory Type: OTP; Operation Voltage Range: 3V - 5.5V; Program Memory KBytes: 3.5; Program Memory KWords: 2; RAM: 128; Timers: 1 - 8-bit; DatasheetVersion: Rev. C; PackageVersion: C04-018B, 12/2012; PackageReference: PDIP-P8; PackageDescription: 8-Lead Plastic Dual In-Line, Row Spacing 7.62 mm, 9.5 x 6.6 mm Body, 2.54 mm Pitch; Supplier 1: Digi-Key; Supplier Part Number 1: PIC12C672-04E/P-ND; Supplier 2: Newark; Supplier Part Number 2: 23C2986; Supplier 3: Mouser; Supplier Part Number 3: 579-PIC12C672-04E/P; Max. CPU Speed MHz: 4; Packing: TUBE; RoHS: TRUE; Mounting Technology: Through Hole; ComponentLink1Description: Datasheet; ComponentLink1URL: http://ww1.microchip.com/downloads/en/DeviceDoc/30561C.pdf; ComponentLink2Description: Package Specification; ComponentLink2URL: http://www.microchip.com/stellent/groups/techpub_sg/documents/packagingspec/en012702.pdf; ComponentLink3Description: URL Link1; ComponentLink3URL: Product URL:http://www.microchip.com/datasheet/PIC12C672
footprint MCHP-PDIP-P8 (PDIP, 8-Leads, Body 9.5x6.604mm, Pitch 2.54mm)
pins: 1 VDD (power) "Positive supply for logic and I/O pins.", 2 GP5/OSC1/CLKIN (io), 3 GP4/OSC2/AN3/CLKOUT (io), 4 GP3/~{MCLR}/VPP (in), 5 GP2/T0CKI/AN2/INT (io), 6 GP1/AN1/VREF (io), 7 GP0/AN0 (io), 8 VSS (power) "Ground reference for logic and I/O pins."

## PIC12C672-04E/SM
designator U?
8-Bit CMOS Microcontroller with A/D Converter and EEPROM Data Memory, 4 MHz, 5 I/O, -40 to 125 degC, 8-pin SOIC (SM8), Tube; Manufacturer: Microchip; PartNumber: PIC12C672-04E/SM; # of A/D Channels: 4; Digital Communication: 0 -UART, 0 -A/E/USART, 0 -SPI, 0 -I2C; I/O Pins: 5; Internal Oscillator: 4 MHz; Memory Type: OTP; Operation Voltage Range: 3V - 5.5V; Program Memory KBytes: 3.5; Program Memory KWords: 2; RAM: 128; Timers: 1 - 8-bit; DatasheetVersion: Rev. C; PackageVersion: C04-056C, 12/2012; PackageReference: SOIC-SM8; PackageDescription: 8-Lead Plastic Small Outline, 5.26 x 5.25 mm Body, 1.27 mm Pitch; Supplier 1: Digi-Key; Supplier Part Number 1: PIC12C672-04E/SM-ND; Supplier 2: Mouser; Supplier Part Number 2: 579-PIC12C672-04E/SM; Max. CPU Speed MHz: 4; Packing: TUBE; RoHS: TRUE; Mounting Technology: Surface Mount; ComponentLink1Description: Datasheet; ComponentLink1URL: http://ww1.microchip.com/downloads/en/DeviceDoc/30561C.pdf; ComponentLink2Description: Package Specification; ComponentLink2URL: http://www.microchip.com/stellent/groups/techpub_sg/documents/packagingspec/en012702.pdf; ComponentLink3Description: URL Link1; ComponentLink3URL: Product URL:http://www.microchip.com/datasheet/PIC12C672
footprint MCHP-SOIC-SM8_N (SOIC, 8-Leads, Body 5.26x5.25mm, Pitch 1.27mm, IPC Medium Density)
footprint MCHP-SOIC-SM8_L (SOIC, 8-Leads, Body 5.26x5.25mm, Pitch 1.27mm, IPC High Density)
footprint MCHP-SOIC-SM8_M (SOIC, 8-Leads, Body 5.26x5.25mm, Pitch 1.27mm, IPC Low Density)
pins: 1 VDD (power) "Positive supply for logic and I/O pins.", 2 GP5/OSC1/CLKIN (io), 3 GP4/OSC2/AN3/CLKOUT (io), 4 GP3/~{MCLR}/VPP (in), 5 GP2/T0CKI/AN2/INT (io), 6 GP1/AN1/VREF (io), 7 GP0/AN0 (io), 8 VSS (power) "Ground reference for logic and I/O pins."

## PIC12C672-04I/P
designator U?
8-Bit CMOS Microcontroller with A/D Converter and EEPROM Data Memory, 4 MHz, 5 I/O, -40 to 85 degC, 8-pin PDIP (P8), Tube; Manufacturer: Microchip; PartNumber: PIC12C672-04I/P; # of A/D Channels: 4; Digital Communication: 0 -UART, 0 -A/E/USART, 0 -SPI, 0 -I2C; I/O Pins: 5; Internal Oscillator: 4 MHz; Memory Type: OTP; Operation Voltage Range: 3V - 5.5V; Program Memory KBytes: 3.5; Program Memory KWords: 2; RAM: 128; Timers: 1 - 8-bit; DatasheetVersion: Rev. C; PackageVersion: C04-018B, 12/2012; PackageReference: PDIP-P8; PackageDescription: 8-Lead Plastic Dual In-Line, Row Spacing 7.62 mm, 9.5 x 6.6 mm Body, 2.54 mm Pitch; Supplier 1: Digi-Key; Supplier Part Number 1: PIC12C672-04I/P-ND; Supplier 2: Farnell; Supplier Part Number 2: 1137298; Supplier 3: Newark; Supplier Part Number 3: 23C2988; Supplier 4: Mouser; Supplier Part Number 4: 579-PIC12C672-04I/P; Max. CPU Speed MHz: 4; Packing: TUBE; RoHS: TRUE; Mounting Technology: Through Hole; ComponentLink1Description: Datasheet; ComponentLink1URL: http://ww1.microchip.com/downloads/en/DeviceDoc/30561C.pdf; ComponentLink2Description: Package Specification; ComponentLink2URL: http://www.microchip.com/stellent/groups/techpub_sg/documents/packagingspec/en012702.pdf; ComponentLink3Description: URL Link1; ComponentLink3URL: Product URL:http://www.microchip.com/datasheet/PIC12C672
footprint MCHP-PDIP-P8 (PDIP, 8-Leads, Body 9.5x6.604mm, Pitch 2.54mm)
pins: 1 VDD (power) "Positive supply for logic and I/O pins.", 2 GP5/OSC1/CLKIN (io), 3 GP4/OSC2/AN3/CLKOUT (io), 4 GP3/~{MCLR}/VPP (in), 5 GP2/T0CKI/AN2/INT (io), 6 GP1/AN1/VREF (io), 7 GP0/AN0 (io), 8 VSS (power) "Ground reference for logic and I/O pins."

## PIC12C672-04I/SM
designator U?
8-Bit CMOS Microcontroller with A/D Converter and EEPROM Data Memory, 4 MHz, 5 I/O, -40 to 85 degC, 8-pin SOIC (SM8), Tube; Manufacturer: Microchip; PartNumber: PIC12C672-04I/SM; # of A/D Channels: 4; Digital Communication: 0 -UART, 0 -A/E/USART, 0 -SPI, 0 -I2C; I/O Pins: 5; Internal Oscillator: 4 MHz; Memory Type: OTP; Operation Voltage Range: 3V - 5.5V; Program Memory KBytes: 3.5; Program Memory KWords: 2; RAM: 128; Timers: 1 - 8-bit; DatasheetVersion: Rev. C; PackageVersion: C04-056C, 12/2012; PackageReference: SOIC-SM8; PackageDescription: 8-Lead Plastic Small Outline, 5.26 x 5.25 mm Body, 1.27 mm Pitch; Supplier 1: Digi-Key; Supplier Part Number 1: PIC12C672-04I/SM-ND; Supplier 2: Farnell; Supplier Part Number 2: 9758895; Supplier 3: Newark; Supplier Part Number 3: 97K7155; Supplier 4: Newark; Supplier Part Number 4: 23C2989; Supplier 5: Mouser; Supplier Part Number 5: 579-PIC12C672-04I/SM; Max. CPU Speed MHz: 4; Packing: TUBE; RoHS: TRUE; Mounting Technology: Surface Mount; ComponentLink1Description: Datasheet; ComponentLink1URL: http://ww1.microchip.com/downloads/en/DeviceDoc/30561C.pdf; ComponentLink2Description: Package Specification; ComponentLink2URL: http://www.microchip.com/stellent/groups/techpub_sg/documents/packagingspec/en012702.pdf; ComponentLink3Description: URL Link1; ComponentLink3URL: Product URL:http://www.microchip.com/datasheet/PIC12C672
footprint MCHP-SOIC-SM8_N (SOIC, 8-Leads, Body 5.26x5.25mm, Pitch 1.27mm, IPC Medium Density)
footprint MCHP-SOIC-SM8_L (SOIC, 8-Leads, Body 5.26x5.25mm, Pitch 1.27mm, IPC High Density)
footprint MCHP-SOIC-SM8_M (SOIC, 8-Leads, Body 5.26x5.25mm, Pitch 1.27mm, IPC Low Density)
pins: 1 VDD (power) "Positive supply for logic and I/O pins.", 2 GP5/OSC1/CLKIN (io), 3 GP4/OSC2/AN3/CLKOUT (io), 4 GP3/~{MCLR}/VPP (in), 5 GP2/T0CKI/AN2/INT (io), 6 GP1/AN1/VREF (io), 7 GP0/AN0 (io), 8 VSS (power) "Ground reference for logic and I/O pins."

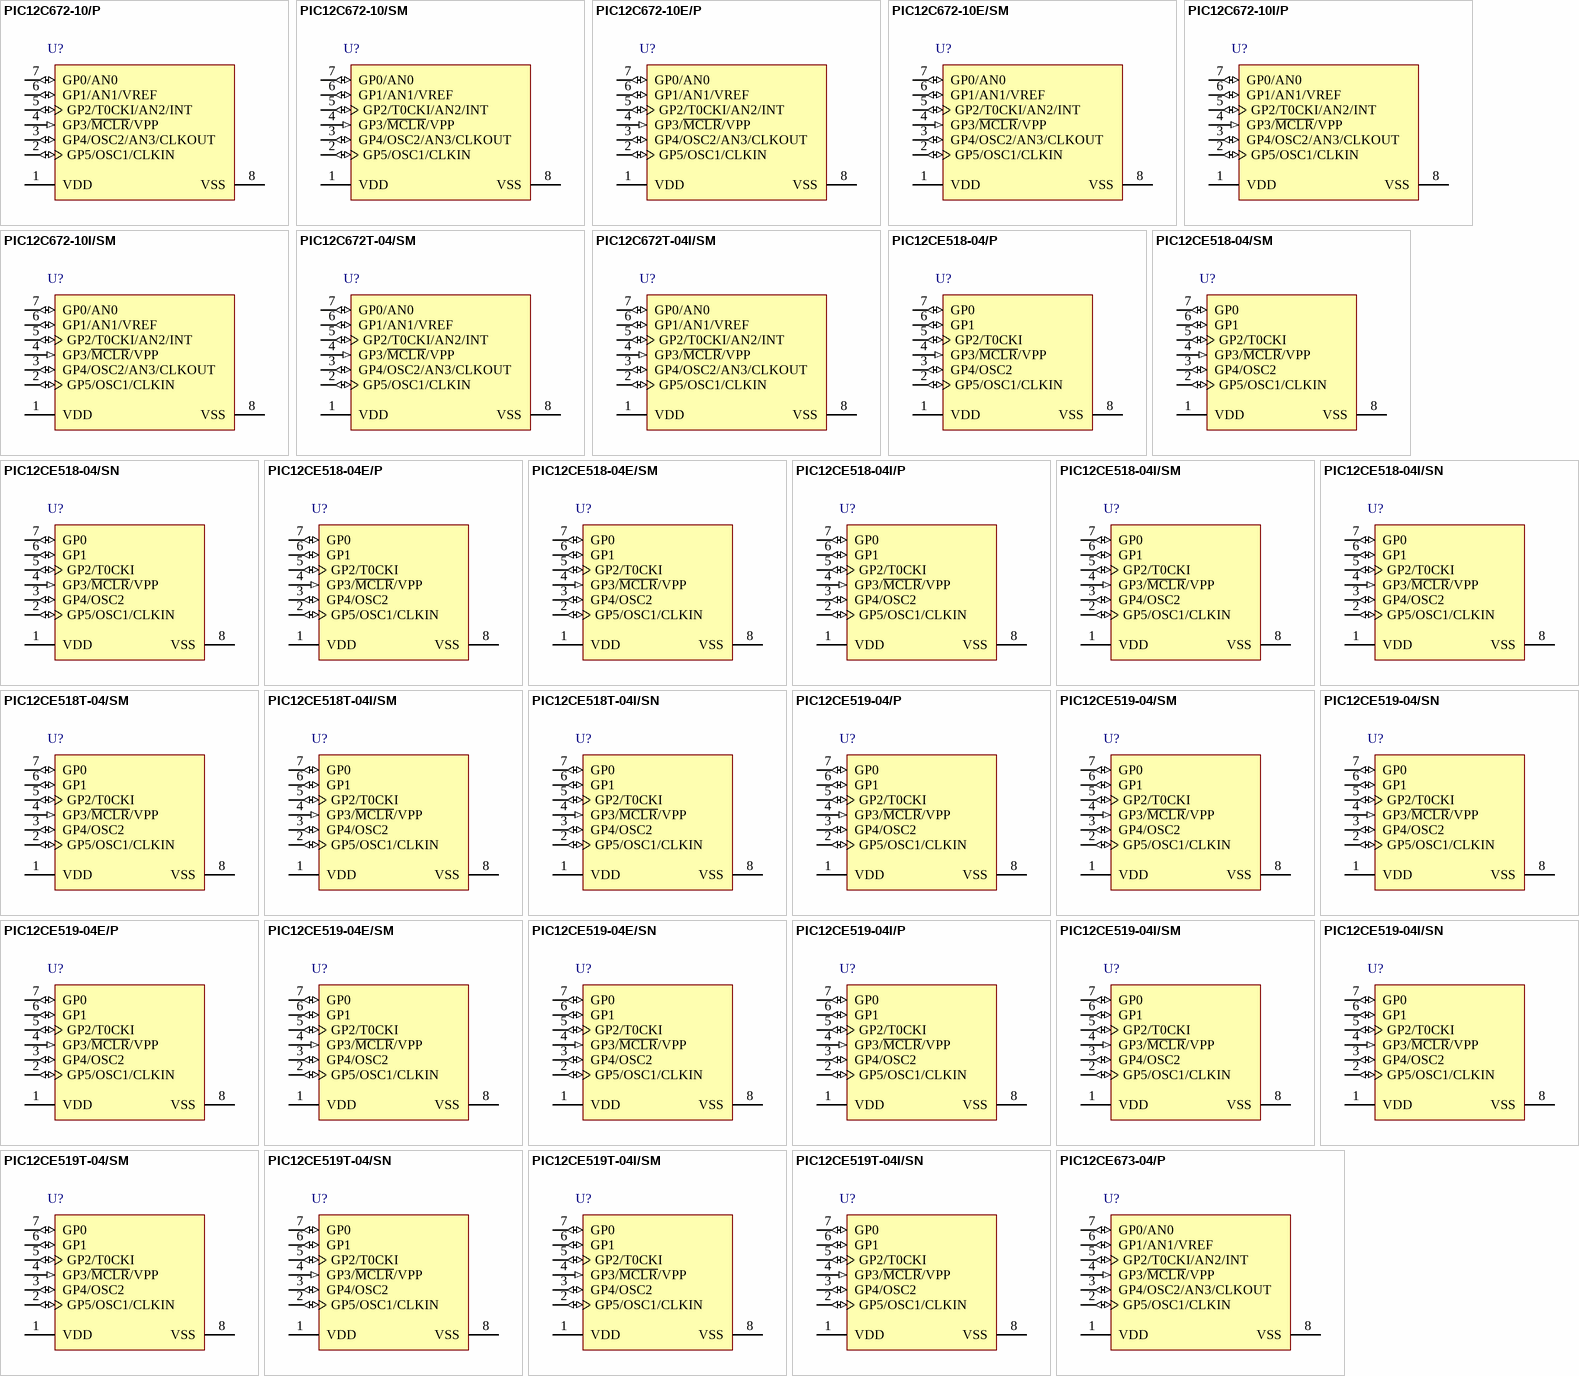
[diagram p2: symbols PIC12C672-10/P to PIC12CE673-04/P]

## PIC12C672-10/P
designator U?
8-Bit CMOS Microcontroller with A/D Converter and EEPROM Data Memory, 10 MHz, 5 I/O, 0 to 70 degC, 8-pin PDIP (P8), Tube; Manufacturer: Microchip; PartNumber: PIC12C672-10/P; # of A/D Channels: 4; Digital Communication: 0 -UART, 0 -A/E/USART, 0 -SPI, 0 -I2C; I/O Pins: 5; Internal Oscillator: 4 MHz; Max. CPU Speed MHz: 10; Memory Type: OTP; Operation Voltage Range: 3V - 5.5V; Program Memory KBytes: 3.5; Program Memory KWords: 2; RAM: 128; Timers: 1 - 8-bit; DatasheetVersion: Rev. C; PackageVersion: C04-018B, 12/2012; PackageReference: PDIP-P8; PackageDescription: 8-Lead Plastic Dual In-Line, Row Spacing 7.62 mm, 9.5 x 6.6 mm Body, 2.54 mm Pitch; Supplier 1: Digi-Key; Supplier Part Number 1: PIC12C672-10/P-ND; Supplier 2: Farnell; Supplier Part Number 2: 9758909; Supplier 3: Mouser; Supplier Part Number 3: 579-PIC12C672-10/P; Packing: TUBE; RoHS: TRUE; Mounting Technology: Through Hole; ComponentLink1Description: Datasheet; ComponentLink1URL: http://ww1.microchip.com/downloads/en/DeviceDoc/30561C.pdf; ComponentLink2Description: Package Specification; ComponentLink2URL: http://www.microchip.com/stellent/groups/techpub_sg/documents/packagingspec/en012702.pdf; ComponentLink3Description: URL Link1; ComponentLink3URL: Product URL:http://www.microchip.com/datasheet/PIC12C672
footprint MCHP-PDIP-P8 (PDIP, 8-Leads, Body 9.5x6.604mm, Pitch 2.54mm)
pins: 1 VDD (power) "Positive supply for logic and I/O pins.", 2 GP5/OSC1/CLKIN (io), 3 GP4/OSC2/AN3/CLKOUT (io), 4 GP3/~{MCLR}/VPP (in), 5 GP2/T0CKI/AN2/INT (io), 6 GP1/AN1/VREF (io), 7 GP0/AN0 (io), 8 VSS (power) "Ground reference for logic and I/O pins."

## PIC12C672-10/SM
designator U?
8-Bit CMOS Microcontroller with A/D Converter and EEPROM Data Memory, 10 MHz, 5 I/O, 0 to 70 degC, 8-pin SOIC (SM8), Tube; Manufacturer: Microchip; PartNumber: PIC12C672-10/SM; # of A/D Channels: 4; Digital Communication: 0 -UART, 0 -A/E/USART, 0 -SPI, 0 -I2C; I/O Pins: 5; Internal Oscillator: 4 MHz; Max. CPU Speed MHz: 10; Memory Type: OTP; Operation Voltage Range: 3V - 5.5V; Program Memory KBytes: 3.5; Program Memory KWords: 2; RAM: 128; Timers: 1 - 8-bit; DatasheetVersion: Rev. C; PackageVersion: C04-056C, 12/2012; PackageReference: SOIC-SM8; PackageDescription: 8-Lead Plastic Small Outline, 5.26 x 5.25 mm Body, 1.27 mm Pitch; Supplier 1: Digi-Key; Supplier Part Number 1: PIC12C672-10/SM-ND; Supplier 2: Mouser; Supplier Part Number 2: 579-PIC12C672-10/SM; Packing: TUBE; RoHS: TRUE; Mounting Technology: Surface Mount; ComponentLink1Description: Datasheet; ComponentLink1URL: http://ww1.microchip.com/downloads/en/DeviceDoc/30561C.pdf; ComponentLink2Description: Package Specification; ComponentLink2URL: http://www.microchip.com/stellent/groups/techpub_sg/documents/packagingspec/en012702.pdf; ComponentLink3Description: URL Link1; ComponentLink3URL: Product URL:http://www.microchip.com/datasheet/PIC12C672
footprint MCHP-SOIC-SM8_N (SOIC, 8-Leads, Body 5.26x5.25mm, Pitch 1.27mm, IPC Medium Density)
footprint MCHP-SOIC-SM8_L (SOIC, 8-Leads, Body 5.26x5.25mm, Pitch 1.27mm, IPC High Density)
footprint MCHP-SOIC-SM8_M (SOIC, 8-Leads, Body 5.26x5.25mm, Pitch 1.27mm, IPC Low Density)
pins: 1 VDD (power) "Positive supply for logic and I/O pins.", 2 GP5/OSC1/CLKIN (io), 3 GP4/OSC2/AN3/CLKOUT (io), 4 GP3/~{MCLR}/VPP (in), 5 GP2/T0CKI/AN2/INT (io), 6 GP1/AN1/VREF (io), 7 GP0/AN0 (io), 8 VSS (power) "Ground reference for logic and I/O pins."

## PIC12C672-10E/P
designator U?
8-Bit CMOS Microcontroller with A/D Converter and EEPROM Data Memory, 10 MHz, 5 I/O, -40 to 125 degC, 8-pin PDIP (P8), Tube; Manufacturer: Microchip; PartNumber: PIC12C672-10E/P; # of A/D Channels: 4; Digital Communication: 0 -UART, 0 -A/E/USART, 0 -SPI, 0 -I2C; I/O Pins: 5; Internal Oscillator: 4 MHz; Max. CPU Speed MHz: 10; Memory Type: OTP; Operation Voltage Range: 3V - 5.5V; Program Memory KBytes: 3.5; Program Memory KWords: 2; RAM: 128; Timers: 1 - 8-bit; DatasheetVersion: Rev. C; PackageVersion: C04-018B, 12/2012; PackageReference: PDIP-P8; PackageDescription: 8-Lead Plastic Dual In-Line, Row Spacing 7.62 mm, 9.5 x 6.6 mm Body, 2.54 mm Pitch; Supplier 1: Digi-Key; Supplier Part Number 1: PIC12C672-10E/P-ND; Supplier 2: Mouser; Supplier Part Number 2: 579-PIC12C672-10E/P; Packing: TUBE; RoHS: TRUE; Mounting Technology: Through Hole; ComponentLink1Description: Datasheet; ComponentLink1URL: http://ww1.microchip.com/downloads/en/DeviceDoc/30561C.pdf; ComponentLink2Description: Package Specification; ComponentLink2URL: http://www.microchip.com/stellent/groups/techpub_sg/documents/packagingspec/en012702.pdf; ComponentLink3Description: URL Link1; ComponentLink3URL: Product URL:http://www.microchip.com/datasheet/PIC12C672
footprint MCHP-PDIP-P8 (PDIP, 8-Leads, Body 9.5x6.604mm, Pitch 2.54mm)
pins: 1 VDD (power) "Positive supply for logic and I/O pins.", 2 GP5/OSC1/CLKIN (io), 3 GP4/OSC2/AN3/CLKOUT (io), 4 GP3/~{MCLR}/VPP (in), 5 GP2/T0CKI/AN2/INT (io), 6 GP1/AN1/VREF (io), 7 GP0/AN0 (io), 8 VSS (power) "Ground reference for logic and I/O pins."

## PIC12C672-10E/SM
designator U?
8-Bit CMOS Microcontroller with A/D Converter and EEPROM Data Memory, 10 MHz, 5 I/O, -40 to 125 degC, 8-pin SOIC (SM8), Tube; Manufacturer: Microchip; PartNumber: PIC12C672-10E/SM; # of A/D Channels: 4; Digital Communication: 0 -UART, 0 -A/E/USART, 0 -SPI, 0 -I2C; I/O Pins: 5; Internal Oscillator: 4 MHz; Max. CPU Speed MHz: 10; Memory Type: OTP; Operation Voltage Range: 3V - 5.5V; Program Memory KBytes: 3.5; Program Memory KWords: 2; RAM: 128; Timers: 1 - 8-bit; DatasheetVersion: Rev. C; PackageVersion: C04-056C, 12/2012; PackageReference: SOIC-SM8; PackageDescription: 8-Lead Plastic Small Outline, 5.26 x 5.25 mm Body, 1.27 mm Pitch; Supplier 1: Digi-Key; Supplier Part Number 1: PIC12C672-10E/SM-ND; Supplier 2: Mouser; Supplier Part Number 2: 579-PIC12C672-10E/SM; Packing: TUBE; RoHS: TRUE; Mounting Technology: Surface Mount; ComponentLink1Description: Datasheet; ComponentLink1URL: http://ww1.microchip.com/downloads/en/DeviceDoc/30561C.pdf; ComponentLink2Description: Package Specification; ComponentLink2URL: http://www.microchip.com/stellent/groups/techpub_sg/documents/packagingspec/en012702.pdf; ComponentLink3Description: URL Link1; ComponentLink3URL: Product URL:http://www.microchip.com/datasheet/PIC12C672
footprint MCHP-SOIC-SM8_N (SOIC, 8-Leads, Body 5.26x5.25mm, Pitch 1.27mm, IPC Medium Density)
footprint MCHP-SOIC-SM8_L (SOIC, 8-Leads, Body 5.26x5.25mm, Pitch 1.27mm, IPC High Density)
footprint MCHP-SOIC-SM8_M (SOIC, 8-Leads, Body 5.26x5.25mm, Pitch 1.27mm, IPC Low Density)
pins: 1 VDD (power) "Positive supply for logic and I/O pins.", 2 GP5/OSC1/CLKIN (io), 3 GP4/OSC2/AN3/CLKOUT (io), 4 GP3/~{MCLR}/VPP (in), 5 GP2/T0CKI/AN2/INT (io), 6 GP1/AN1/VREF (io), 7 GP0/AN0 (io), 8 VSS (power) "Ground reference for logic and I/O pins."

## PIC12C672-10I/P
designator U?
8-Bit CMOS Microcontroller with A/D Converter and EEPROM Data Memory, 10 MHz, 5 I/O, -40 to 85 degC, 8-pin PDIP (P8), Tube; Manufacturer: Microchip; PartNumber: PIC12C672-10I/P; # of A/D Channels: 4; Digital Communication: 0 -UART, 0 -A/E/USART, 0 -SPI, 0 -I2C; I/O Pins: 5; Internal Oscillator: 4 MHz; Max. CPU Speed MHz: 10; Memory Type: OTP; Operation Voltage Range: 3V - 5.5V; Program Memory KBytes: 3.5; Program Memory KWords: 2; RAM: 128; Timers: 1 - 8-bit; DatasheetVersion: Rev. C; PackageVersion: C04-018B, 12/2012; PackageReference: PDIP-P8; PackageDescription: 8-Lead Plastic Dual In-Line, Row Spacing 7.62 mm, 9.5 x 6.6 mm Body, 2.54 mm Pitch; Supplier 1: Digi-Key; Supplier Part Number 1: PIC12C672-10I/P-ND; Supplier 2: Farnell; Supplier Part Number 2: 1084241; Supplier 3: Newark; Supplier Part Number 3: 23C2994; Supplier 4: Mouser; Supplier Part Number 4: 579-PIC12C672-10I/P; Packing: TUBE; RoHS: TRUE; Mounting Technology: Through Hole; ComponentLink1Description: Datasheet; ComponentLink1URL: http://ww1.microchip.com/downloads/en/DeviceDoc/30561C.pdf; ComponentLink2Description: Package Specification; ComponentLink2URL: http://www.microchip.com/stellent/groups/techpub_sg/documents/packagingspec/en012702.pdf; ComponentLink3Description: URL Link1; ComponentLink3URL: Product URL:http://www.microchip.com/datasheet/PIC12C672
footprint MCHP-PDIP-P8 (PDIP, 8-Leads, Body 9.5x6.604mm, Pitch 2.54mm)
pins: 1 VDD (power) "Positive supply for logic and I/O pins.", 2 GP5/OSC1/CLKIN (io), 3 GP4/OSC2/AN3/CLKOUT (io), 4 GP3/~{MCLR}/VPP (in), 5 GP2/T0CKI/AN2/INT (io), 6 GP1/AN1/VREF (io), 7 GP0/AN0 (io), 8 VSS (power) "Ground reference for logic and I/O pins."

## PIC12C672-10I/SM
designator U?
8-Bit CMOS Microcontroller with A/D Converter and EEPROM Data Memory, 10 MHz, 5 I/O, -40 to 85 degC, 8-pin SOIC (SM8), Tube; Manufacturer: Microchip; PartNumber: PIC12C672-10I/SM; # of A/D Channels: 4; Digital Communication: 0 -UART, 0 -A/E/USART, 0 -SPI, 0 -I2C; I/O Pins: 5; Internal Oscillator: 4 MHz; Max. CPU Speed MHz: 10; Memory Type: OTP; Operation Voltage Range: 3V - 5.5V; Program Memory KBytes: 3.5; Program Memory KWords: 2; RAM: 128; Timers: 1 - 8-bit; DatasheetVersion: Rev. C; PackageVersion: C04-056C, 12/2012; PackageReference: SOIC-SM8; PackageDescription: 8-Lead Plastic Small Outline, 5.26 x 5.25 mm Body, 1.27 mm Pitch; Supplier 1: Digi-Key; Supplier Part Number 1: PIC12C672-10I/SM-ND; Supplier 2: Newark; Supplier Part Number 2: 23C2995; Supplier 3: Mouser; Supplier Part Number 3: 579-PIC12C672-10I/SM; Packing: TUBE; RoHS: TRUE; Mounting Technology: Surface Mount; ComponentLink1Description: Datasheet; ComponentLink1URL: http://ww1.microchip.com/downloads/en/DeviceDoc/30561C.pdf; ComponentLink2Description: Package Specification; ComponentLink2URL: http://www.microchip.com/stellent/groups/techpub_sg/documents/packagingspec/en012702.pdf; ComponentLink3Description: URL Link1; ComponentLink3URL: Product URL:http://www.microchip.com/datasheet/PIC12C672
footprint MCHP-SOIC-SM8_N (SOIC, 8-Leads, Body 5.26x5.25mm, Pitch 1.27mm, IPC Medium Density)
footprint MCHP-SOIC-SM8_L (SOIC, 8-Leads, Body 5.26x5.25mm, Pitch 1.27mm, IPC High Density)
footprint MCHP-SOIC-SM8_M (SOIC, 8-Leads, Body 5.26x5.25mm, Pitch 1.27mm, IPC Low Density)
pins: 1 VDD (power) "Positive supply for logic and I/O pins.", 2 GP5/OSC1/CLKIN (io), 3 GP4/OSC2/AN3/CLKOUT (io), 4 GP3/~{MCLR}/VPP (in), 5 GP2/T0CKI/AN2/INT (io), 6 GP1/AN1/VREF (io), 7 GP0/AN0 (io), 8 VSS (power) "Ground reference for logic and I/O pins."

## PIC12C672T-04/SM
designator U?
8-Bit CMOS Microcontroller with A/D Converter and EEPROM Data Memory, 4 MHz, 5 I/O, 0 to 70 degC, 8-pin SOIC (SM8), Tape and Reel; Manufacturer: Microchip; PartNumber: PIC12C672T-04/SM; # of A/D Channels: 4; Digital Communication: 0 -UART, 0 -A/E/USART, 0 -SPI, 0 -I2C; I/O Pins: 5; Internal Oscillator: 4 MHz; Memory Type: OTP; Operation Voltage Range: 3V - 5.5V; Packing: T/R; Program Memory KBytes: 3.5; Program Memory KWords: 2; RAM: 128; Timers: 1 - 8-bit; DatasheetVersion: Rev. C; PackageVersion: C04-056C, 12/2012; PackageReference: SOIC-SM8; PackageDescription: 8-Lead Plastic Small Outline, 5.26 x 5.25 mm Body, 1.27 mm Pitch; Supplier 1: Digi-Key; Supplier Part Number 1: PIC12C672T-04/SM-ND; Supplier 2: Mouser; Supplier Part Number 2: 579-PIC12C672T-04/SM; Max. CPU Speed MHz: 4; RoHS: TRUE; Mounting Technology: Surface Mount; ComponentLink1Description: Datasheet; ComponentLink1URL: http://ww1.microchip.com/downloads/en/DeviceDoc/30561C.pdf; ComponentLink2Description: Package Specification; ComponentLink2URL: http://www.microchip.com/stellent/groups/techpub_sg/documents/packagingspec/en012702.pdf; ComponentLink3Description: URL Link1; ComponentLink3URL: Product URL:http://www.microchip.com/datasheet/PIC12C672
footprint MCHP-SOIC-SM8_N (SOIC, 8-Leads, Body 5.26x5.25mm, Pitch 1.27mm, IPC Medium Density)
footprint MCHP-SOIC-SM8_L (SOIC, 8-Leads, Body 5.26x5.25mm, Pitch 1.27mm, IPC High Density)
footprint MCHP-SOIC-SM8_M (SOIC, 8-Leads, Body 5.26x5.25mm, Pitch 1.27mm, IPC Low Density)
pins: 1 VDD (power) "Positive supply for logic and I/O pins.", 2 GP5/OSC1/CLKIN (io), 3 GP4/OSC2/AN3/CLKOUT (io), 4 GP3/~{MCLR}/VPP (in), 5 GP2/T0CKI/AN2/INT (io), 6 GP1/AN1/VREF (io), 7 GP0/AN0 (io), 8 VSS (power) "Ground reference for logic and I/O pins."